# EAGLE library part DRV8835DSSR (library DRV8835)
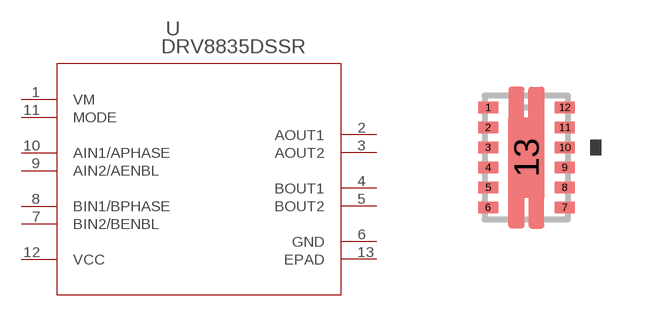
[diagram p0: symbol with the pads of DSS12_P9X2; footprint DSS12_P9X2]

Designator prefix U

## DRV8835DSSR (MANUFACTURER_PART_NUMBER: DRV8835DSSR; VENDOR: Texas Instruments)  [DSS12_P9X2]
1  VM  pwr
2  AOUT1  out
3  AOUT2  out
4  BOUT1  out
5  BOUT2  out
6  GND  pwr
7  BIN2/BENBL  in
8  BIN1/BPHASE  in
9  AIN2/AENBL  in
10  AIN1/APHASE  in
11  MODE  in
12  VCC  pwr
13  EPAD  pas

## Footprint DSS12_P9X2 (pad centres in mm)
smd 0.5 x 0.28: 1 -0.959,1.25; 2 -0.959,0.75; 3 -0.959,0.25; 4 -0.959,-0.25; 5 -0.959,-0.75; 6 -0.959,-1.25; 7 0.959,-1.25; 8 0.959,-0.75; 9 0.959,-0.25; 10 0.959,0.25; 11 0.959,0.75; 12 0.959,1.25
smd 0.9 x 2: 13 0,0